# EAGLE library part DAPULE (library DAPule-STM32F103-v1.1.0)
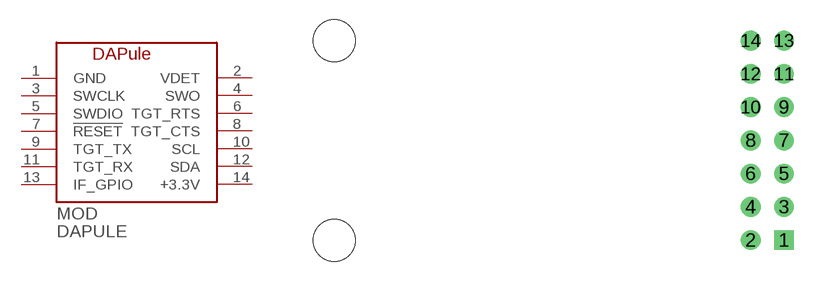
[diagram p3: symbol with the pads of DAPULE; footprint DAPULE]

Designator prefix MOD

## DAPULE  [DAPULE]
1  GND
2  VDET
3  SWCLK
4  SWO
5  SWDIO
6  TGT_RTS
7  !RESET
8  TGT_CTS
9  TGT_TX
10  SCL
11  TGT_RX
12  SDA
13  IF_GPIO
14  +3.3V

## Footprint DAPULE (pad centres in mm)
drill 1 square: 1 36.83,-7.62
drill 1: 2 34.29,-7.62; 3 36.83,-5.08; 4 34.29,-5.08; 5 36.83,-2.54; 6 34.29,-2.54; 7 36.83,0; 8 34.29,0; 9 36.83,2.54; 10 34.29,2.54; 11 36.83,5.08; 12 34.29,5.08; 13 36.83,7.62; 14 34.29,7.62
hole 3.2 at 2.54,7.62
hole 3.2 at 2.54,-7.62